# Altium footprint library Capacitor_THT.PcbLib: 378 footprints (part 21 of 24)
Each footprint in its own frame and in the unit in brackets; x right, y up, seen from the top. Pads: shape width x height; smd on the part's side, far side on the other; paste and mask are expansions set on the pad; w line width, h text height; cw(c..) or ccw(c..) is an arc to the next point about the centre after c.
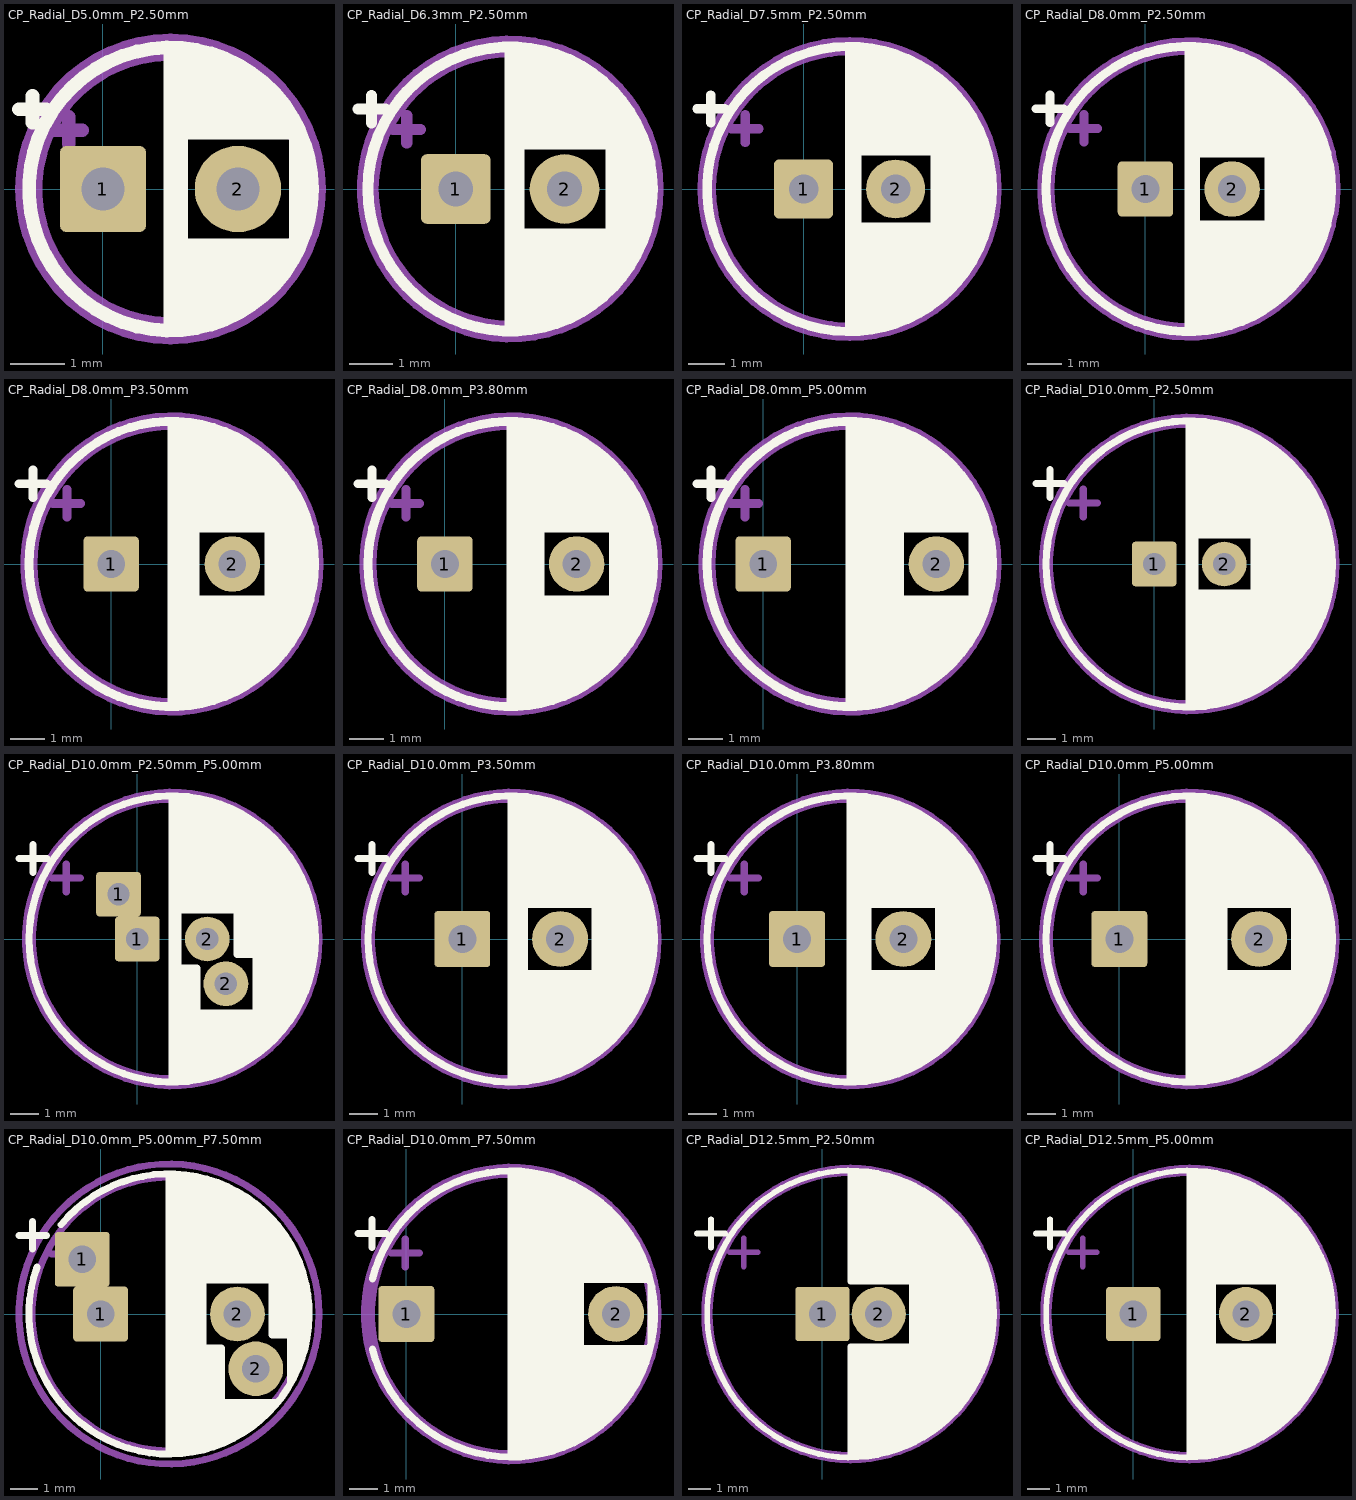
[diagram p20: the footprints below, top view; thin cyan lines are the x and y axes]

## CP_Radial_D5.0mm_P2.50mm [mm]
pads (2):
  rrect16% 1.6x1.6 hole 0.8: 1(0,0)
  round 1.6 hole 0.8: 2(2.5,0)
F.SilkS:
  circle w0.254: c1.25,0 r2.62
  lines w0.254: -1.555,1.475 -1.055,1.475 ; -1.305,1.225 -1.305,1.725 ; 1.25,-2.58 1.25,2.58 ; 1.29,-2.58 1.29,2.58 ; 1.33,-2.579 1.33,2.579 ; 1.37,-2.577 1.37,2.577 ; 1.41,-2.575 1.41,2.575 ; 1.45,-2.572 1.45,2.572 ; 1.49,-2.569 1.49,-1.04 ; 1.49,1.04 1.49,2.569 ; 1.53,-2.565 1.53,-1.04 ; 1.53,1.04 1.53,2.565 ; 1.57,-2.56 1.57,-1.04 ; 1.57,1.04 1.57,2.56 ; 1.61,-2.555 1.61,-1.04 ; 1.61,1.04 1.61,2.555 ; 1.65,-2.549 1.65,-1.04 ; 1.65,1.04 1.65,2.549 ; 1.69,-2.543 1.69,-1.04 ; 1.69,1.04 1.69,2.543 ; 1.73,-2.536 1.73,-1.04 ; 1.73,1.04 1.73,2.536 ; 1.77,-2.528 1.77,-1.04 ; 1.77,1.04 1.77,2.528 ; 1.81,-2.519 1.81,-1.04 ; 1.81,1.04 1.81,2.519 ; 1.85,-2.51 1.85,-1.04 ; 1.85,1.04 1.85,2.51 ; 1.89,-2.501 1.89,-1.04 ; 1.89,1.04 1.89,2.501 ; 1.93,-2.49 1.93,-1.04 ; 1.93,1.04 1.93,2.49 ; 1.97,-2.479 1.97,-1.04 ; 1.97,1.04 1.97,2.479 ; 2.01,-2.467 2.01,-1.04 ; 2.01,1.04 2.01,2.467 ; 2.05,-2.455 2.05,-1.04 ; 2.05,1.04 2.05,2.455 ; 2.09,-2.442 2.09,-1.04 ; 2.09,1.04 2.09,2.442 ; 2.13,-2.428 2.13,-1.04 ; 2.13,1.04 2.13,2.428 ; 2.17,-2.413 2.17,-1.04 ; 2.17,1.04 2.17,2.413 ; 2.21,-2.398 2.21,-1.04 ; 2.21,1.04 2.21,2.398 ; 2.25,-2.382 2.25,-1.04 ; 2.25,1.04 2.25,2.382 ; 2.29,-2.365 2.29,-1.04 ; 2.29,1.04 2.29,2.365 ; 2.33,-2.347 2.33,-1.04 ; 2.33,1.04 2.33,2.347 ; 2.37,-2.329 2.37,-1.04 ; 2.37,1.04 2.37,2.329 ; 2.41,-2.309 2.41,-1.04 ; 2.41,1.04 2.41,2.309 ; 2.45,-2.289 2.45,-1.04 ; 2.45,1.04 2.45,2.289 ; 2.49,-2.268 2.49,-1.04 ; 2.49,1.04 2.49,2.268 ; 2.53,-2.246 2.53,-1.04 ; 2.53,1.04 2.53,2.246 ; 2.57,-2.223 2.57,-1.04 ; 2.57,1.04 2.57,2.223 ; 2.61,-2.199 2.61,-1.04 ; 2.61,1.04 2.61,2.199 ; 2.65,-2.175 2.65,-1.04 ; 2.65,1.04 2.65,2.175 ; 2.69,-2.149 2.69,-1.04 ; 2.69,1.04 2.69,2.149 ; 2.73,-2.122 2.73,-1.04 ; 2.73,1.04 2.73,2.122 ; 2.77,-2.094 2.77,-1.04 ; 2.77,1.04 2.77,2.094 ; 2.81,-2.065 2.81,-1.04 ; 2.81,1.04 2.81,2.065 ; 2.85,-2.035 2.85,-1.04 ; 2.85,1.04 2.85,2.035 ; 2.89,-2.003 2.89,-1.04 ; 2.89,1.04 2.89,2.003 ; 2.93,-1.97 2.93,-1.04 ; 2.93,1.04 2.93,1.97 ; 2.97,-1.936 2.97,-1.04 ; 2.97,1.04 2.97,1.936 ; 3.01,-1.901 3.01,-1.04 ; 3.01,1.04 3.01,1.901 ; 3.05,-1.864 3.05,-1.04 ; 3.05,1.04 3.05,1.864 ; 3.09,-1.825 3.09,-1.04 ; 3.09,1.04 3.09,1.825 ; 3.13,-1.785 3.13,-1.04 ; 3.13,1.04 3.13,1.785 ; 3.17,-1.743 3.17,-1.04 ; 3.17,1.04 3.17,1.743 ; 3.21,-1.699 3.21,-1.04 ; 3.21,1.04 3.21,1.699 ; 3.25,-1.652 3.25,-1.04 ; 3.25,1.04 3.25,1.652 ; 3.29,-1.604 3.29,-1.04 ; 3.29,1.04 3.29,1.604 ; 3.33,-1.553 3.33,-1.04 ; 3.33,1.04 3.33,1.553 ; 3.37,-1.499 3.37,-1.04 ; 3.37,1.04 3.37,1.499 ; 3.41,-1.443 3.41,-1.04 ; 3.41,1.04 3.41,1.443 ; 3.45,-1.383 3.45,-1.04 ; 3.45,1.04 3.45,1.383 ; 3.49,-1.319 3.49,-1.04 ; 3.49,1.04 3.49,1.319 ; 3.53,-1.251 3.53,-1.04 ; 3.53,1.04 3.53,1.251 ; 3.57,-1.177 3.57,1.177 ; 3.61,-1.098 3.61,1.098 ; 3.65,-1.011 3.65,1.011 ; 3.69,-0.914 3.69,0.914 ; 3.73,-0.805 3.73,0.805 ; 3.77,-0.677 3.77,0.677 ; 3.81,-0.517 3.81,0.517 ; 3.85,-0.283 3.85,0.283
Top Assembly:
  circle w0.254: c1.25,0 r2.5
  lines w0.254: -0.884,1.088 -0.384,1.088 ; -0.634,0.837 -0.634,1.338
  text "'.Designator'" at -2.797,-0.84 h1
Top Courtyard:
  circle w0.254: c1.25,0 r2.75
Top Designator:
  text ".Designator" at -6.518,-0.508 h1.52

## CP_Radial_D6.3mm_P2.50mm [mm]
pads (2):
  rrect16% 1.6x1.6 hole 0.8: 1(0,0)
  round 1.6 hole 0.8: 2(2.5,0)
F.SilkS:
  circle w0.254: c1.25,0 r3.27
  lines w0.254: -2.25,1.839 -1.62,1.839 ; -1.935,1.524 -1.935,2.154 ; 1.25,-3.23 1.25,3.23 ; 1.29,-3.23 1.29,3.23 ; 1.33,-3.229 1.33,3.229 ; 1.37,-3.228 1.37,3.228 ; 1.41,-3.226 1.41,3.226 ; 1.45,-3.224 1.45,3.224 ; 1.49,-3.221 1.49,-1.04 ; 1.49,1.04 1.49,3.221 ; 1.53,-3.218 1.53,-1.04 ; 1.53,1.04 1.53,3.218 ; 1.57,-3.214 1.57,-1.04 ; 1.57,1.04 1.57,3.214 ; 1.61,-3.21 1.61,-1.04 ; 1.61,1.04 1.61,3.21 ; 1.65,-3.205 1.65,-1.04 ; 1.65,1.04 1.65,3.205 ; 1.69,-3.2 1.69,-1.04 ; 1.69,1.04 1.69,3.2 ; 1.73,-3.195 1.73,-1.04 ; 1.73,1.04 1.73,3.195 ; 1.77,-3.188 1.77,-1.04 ; 1.77,1.04 1.77,3.188 ; 1.81,-3.182 1.81,-1.04 ; 1.81,1.04 1.81,3.182 ; 1.85,-3.174 1.85,-1.04 ; 1.85,1.04 1.85,3.174 ; 1.89,-3.167 1.89,-1.04 ; 1.89,1.04 1.89,3.167 ; 1.93,-3.159 1.93,-1.04 ; 1.93,1.04 1.93,3.159 ; 1.97,-3.15 1.97,-1.04 ; 1.97,1.04 1.97,3.15 ; 2.01,-3.14 2.01,-1.04 ; 2.01,1.04 2.01,3.14 ; 2.05,-3.131 2.05,-1.04 ; 2.05,1.04 2.05,3.131 ; 2.09,-3.12 2.09,-1.04 ; 2.09,1.04 2.09,3.12 ; 2.13,-3.109 2.13,-1.04 ; 2.13,1.04 2.13,3.109 ; 2.17,-3.098 2.17,-1.04 ; 2.17,1.04 2.17,3.098 ; 2.21,-3.086 2.21,-1.04 ; 2.21,1.04 2.21,3.086 ; 2.25,-3.073 2.25,-1.04 ; 2.25,1.04 2.25,3.073 ; 2.29,-3.06 2.29,-1.04 ; 2.29,1.04 2.29,3.06 ; 2.33,-3.047 2.33,-1.04 ; 2.33,1.04 2.33,3.047 ; 2.37,-3.032 2.37,-1.04 ; 2.37,1.04 2.37,3.032 ; 2.41,-3.017 2.41,-1.04 ; 2.41,1.04 2.41,3.017 ; 2.45,-3.002 2.45,-1.04 ; 2.45,1.04 2.45,3.002 ; 2.49,-2.986 2.49,-1.04 ; 2.49,1.04 2.49,2.986 ; 2.53,-2.969 2.53,-1.04 ; 2.53,1.04 2.53,2.969 ; 2.57,-2.952 2.57,-1.04 ; 2.57,1.04 2.57,2.952 ; 2.61,-2.934 2.61,-1.04 ; 2.61,1.04 2.61,2.934 ; 2.65,-2.915 2.65,-1.04 ; 2.65,1.04 2.65,2.915 ; 2.69,-2.896 2.69,-1.04 ; 2.69,1.04 2.69,2.896 ; 2.73,-2.876 2.73,-1.04 ; 2.73,1.04 2.73,2.876 ; 2.77,-2.855 2.77,-1.04 ; 2.77,1.04 2.77,2.855 ; 2.81,-2.834 2.81,-1.04 ; 2.81,1.04 2.81,2.834 ; 2.85,-2.812 2.85,-1.04 ; 2.85,1.04 2.85,2.812 ; 2.89,-2.789 2.89,-1.04 ; 2.89,1.04 2.89,2.789 ; 2.93,-2.765 2.93,-1.04 ; 2.93,1.04 2.93,2.765 ; 2.97,-2.741 2.97,-1.04 ; 2.97,1.04 2.97,2.741 ; 3.01,-2.716 3.01,-1.04 ; 3.01,1.04 3.01,2.716 ; 3.05,-2.69 3.05,-1.04 ; 3.05,1.04 3.05,2.69 ; 3.09,-2.663 3.09,-1.04 ; 3.09,1.04 3.09,2.663 ; 3.13,-2.636 3.13,-1.04 ; 3.13,1.04 3.13,2.636 ; 3.17,-2.607 3.17,-1.04 ; 3.17,1.04 3.17,2.607 ; 3.21,-2.577 3.21,-1.04 ; 3.21,1.04 3.21,2.577 ; 3.25,-2.547 3.25,-1.04 ; 3.25,1.04 3.25,2.547 ; 3.29,-2.516 3.29,-1.04 ; 3.29,1.04 3.29,2.516 ; 3.33,-2.483 3.33,-1.04 ; 3.33,1.04 3.33,2.483 ; 3.37,-2.45 3.37,-1.04 ; 3.37,1.04 3.37,2.45 ; 3.41,-2.415 3.41,-1.04 ; 3.41,1.04 3.41,2.415 ; 3.45,-2.379 3.45,-1.04 ; 3.45,1.04 3.45,2.379 ; 3.49,-2.342 3.49,-1.04 ; 3.49,1.04 3.49,2.342 ; 3.53,-2.304 3.53,-1.04 ; 3.53,1.04 3.53,2.304 ; 3.57,-2.264 3.57,2.264 ; 3.61,-2.223 3.61,2.223 ; 3.65,-2.181 3.65,2.181 ; 3.69,-2.137 3.69,2.137 ; 3.73,-2.091 3.73,2.091 ; 3.77,-2.044 3.77,2.044 ; 3.81,-1.995 3.81,1.995 ; 3.85,-1.943 3.85,1.943 ; 3.89,-1.89 3.89,1.89 ; 3.93,-1.834 3.93,1.834 ; 3.97,-1.775 3.97,1.775 ; 4.01,-1.714 4.01,1.714 ; 4.05,-1.649 4.05,1.649 ; 4.09,-1.581 4.09,1.581 ; 4.13,-1.509 4.13,1.509 ; 4.17,-1.432 4.17,1.432 ; 4.21,-1.35 4.21,1.35 ; 4.25,-1.261 4.25,1.261 ; 4.29,-1.165 4.29,1.165 ; 4.33,-1.058 4.33,1.058 ; 4.37,-0.939 4.37,0.939 ; 4.41,-0.801 4.41,0.801 ; 4.45,-0.633 4.45,0.633 ; 4.49,-0.402 4.49,0.402
Top Assembly:
  circle w0.254: c1.25,0 r3.15
  lines w0.254: -1.444,1.373 -0.814,1.373 ; -1.129,1.058 -1.129,1.689
  text "'.Designator'" at -2.797,-0.84 h1
Top Courtyard:
  circle w0.254: c1.25,0 r3.4
Top Designator:
  text ".Designator" at -6.518,-0.508 h1.52

## CP_Radial_D7.5mm_P2.50mm [mm]
pads (2):
  rrect16% 1.6x1.6 hole 0.8: 1(0,0)
  round 1.6 hole 0.8: 2(2.5,0)
F.SilkS:
  drawing of 152 lines, arcs and shapes, not listed
Top Assembly:
  circle w0.254: c1.25,0 r3.75
  lines w0.254: -1.961,1.637 -1.211,1.637 ; -1.586,1.262 -1.586,2.013
  text "'.Designator'" at -2.797,-0.84 h1
Top Courtyard:
  circle w0.254: c1.25,0 r4
Top Designator:
  text ".Designator" at -6.439,-0.508 h1.52

## CP_Radial_D8.0mm_P2.50mm [mm]
pads (2):
  rrect16% 1.6x1.6 hole 0.8: 1(0,0)
  round 1.6 hole 0.8: 2(2.5,0)
F.SilkS:
  drawing of 158 lines, arcs and shapes, not listed
Top Assembly:
  circle w0.254: c1.25,0 r4
  lines w0.254: -2.177,1.747 -1.377,1.747 ; -1.777,1.348 -1.777,2.147
  text "'.Designator'" at -2.797,-0.84 h1
Top Courtyard:
  circle w0.254: c1.25,0 r4.25
Top Designator:
  text ".Designator" at -6.447,-0.508 h1.52

## CP_Radial_D8.0mm_P3.50mm [mm]
pads (2):
  rrect16% 1.6x1.6 hole 0.8: 1(0,0)
  round 1.6 hole 0.8: 2(3.5,0)
F.SilkS:
  drawing of 158 lines, arcs and shapes, not listed
Top Assembly:
  circle w0.254: c1.75,0 r4
  lines w0.254: -1.677,1.747 -0.877,1.747 ; -1.277,1.348 -1.277,2.147
  text "'.Designator'" at -2.297,-0.84 h1
Top Courtyard:
  circle w0.254: c1.75,0 r4.25
Top Designator:
  text ".Designator" at -5.947,-0.508 h1.52

## CP_Radial_D8.0mm_P3.80mm [mm]
pads (2):
  rrect16% 1.6x1.6 hole 0.8: 1(0,0)
  round 1.6 hole 0.8: 2(3.8,0)
F.SilkS:
  drawing of 158 lines, arcs and shapes, not listed
Top Assembly:
  circle w0.254: c1.9,0 r4
  lines w0.254: -1.527,1.747 -0.727,1.747 ; -1.127,1.348 -1.127,2.147
  text "'.Designator'" at -2.147,-0.84 h1
Top Courtyard:
  circle w0.254: c1.9,0 r4.25
Top Designator:
  text ".Designator" at -5.797,-0.508 h1.52

## CP_Radial_D8.0mm_P5.00mm [mm]
pads (2):
  rrect16% 1.6x1.6 hole 0.8: 1(0,0)
  round 1.6 hole 0.8: 2(5,0)
F.SilkS:
  drawing of 158 lines, arcs and shapes, not listed
Top Assembly:
  circle w0.254: c2.5,0 r4
  lines w0.254: -0.927,1.747 -0.127,1.747 ; -0.527,1.348 -0.527,2.147
  text "'.Designator'" at -1.547,-0.84 h1
Top Courtyard:
  circle w0.254: c2.5,0 r4.25
Top Designator:
  text ".Designator" at -5.197,-0.508 h1.52

## CP_Radial_D10.0mm_P2.50mm [mm]
pads (2):
  rrect16% 1.6x1.6 hole 0.8: 1(0,0)
  round 1.6 hole 0.8: 2(2.5,0)
F.SilkS:
  drawing of 183 lines, arcs and shapes, not listed
Top Assembly:
  circle w0.254: c1.25,0 r5
  lines w0.254: -3.039,2.187 -2.039,2.187 ; -2.539,1.687 -2.539,2.688
  text "'.Designator'" at -2.797,-0.84 h1
Top Courtyard:
  circle w0.254: c1.25,0 r5.25
Top Designator:
  text ".Designator" at -6.482,-0.508 h1.52

## CP_Radial_D10.0mm_P2.50mm_P5.00mm [mm]
pads (4):
  rrect16% 1.6x1.6 hole 0.8: 1(-0.671,1.6) 1(0,0)
  round 1.6 hole 0.8: 2(2.5,0) 2(3.171,-1.6)
F.SilkS:
  drawing of 200 lines, arcs and shapes, not listed
Top Assembly:
  circle w0.254: c1.25,0 r5
  lines w0.254: -3.039,2.187 -2.039,2.187 ; -2.539,1.687 -2.539,2.688
  text "'.Designator'" at -2.797,-0.84 h1
Top Courtyard:
  circle w0.254: c1.25,0 r5.25
Top Designator:
  text ".Designator" at -6.482,-0.508 h1.52

## CP_Radial_D10.0mm_P3.50mm [mm]
pads (2):
  rrect12% 2x2 hole 1: 1(0,0)
  round 2 hole 1: 2(3.5,0)
F.SilkS:
  drawing of 193 lines, arcs and shapes, not listed
Top Assembly:
  circle w0.254: c1.75,0 r5
  lines w0.254: -2.539,2.187 -1.539,2.187 ; -2.039,1.687 -2.039,2.688
  text "'.Designator'" at -2.297,-0.84 h1
Top Courtyard:
  circle w0.254: c1.75,0 r5.25
Top Designator:
  text ".Designator" at -5.982,-0.508 h1.52

## CP_Radial_D10.0mm_P3.80mm [mm]
pads (2):
  rrect12% 2x2 hole 1: 1(0,0)
  round 2 hole 1: 2(3.8,0)
F.SilkS:
  drawing of 193 lines, arcs and shapes, not listed
Top Assembly:
  circle w0.254: c1.9,0 r5
  lines w0.254: -2.389,2.187 -1.389,2.187 ; -1.889,1.687 -1.889,2.688
  text "'.Designator'" at -2.147,-0.84 h1
Top Courtyard:
  circle w0.254: c1.9,0 r5.25
Top Designator:
  text ".Designator" at -5.832,-0.508 h1.52

## CP_Radial_D10.0mm_P5.00mm [mm]
pads (2):
  rrect12% 2x2 hole 1: 1(0,0)
  round 2 hole 1: 2(5,0)
F.SilkS:
  drawing of 193 lines, arcs and shapes, not listed
Top Assembly:
  circle w0.254: c2.5,0 r5
  lines w0.254: -1.789,2.187 -0.789,2.187 ; -1.289,1.687 -1.289,2.688
  text "'.Designator'" at -1.547,-0.84 h1
Top Courtyard:
  circle w0.254: c2.5,0 r5.25
Top Designator:
  text ".Designator" at -5.232,-0.508 h1.52

## CP_Radial_D10.0mm_P5.00mm_P7.50mm [mm]
pads (4):
  rrect12% 2x2 hole 1: 1(-0.672,2) 1(0,0)
  round 2 hole 1: 2(5,0) 2(5.672,-2)
F.SilkS:
  drawing of 197 lines, arcs and shapes, not listed
Top Assembly:
  circle w0.254: c2.5,0 r5
  lines w0.254: -1.789,2.187 -0.789,2.187 ; -1.289,1.687 -1.289,2.688
  text "'.Designator'" at -1.547,-0.84 h1
Top Courtyard:
  circle w0.254: c2.5,0 r5.48
Top Designator:
  text ".Designator" at -5.118,-0.508 h1.52

## CP_Radial_D10.0mm_P7.50mm [mm]
pads (2):
  rrect12% 2x2 hole 1: 1(0,0)
  round 2 hole 1: 2(7.5,0)
F.SilkS:
  drawing of 191 lines, arcs and shapes, not listed
Top Assembly:
  circle w0.254: c3.75,0 r5
  lines w0.254: -0.539,2.187 0.461,2.187 ; -0.039,1.687 -0.039,2.688
  text "'.Designator'" at -0.297,-0.84 h1
Top Courtyard:
  circle w0.254: c3.75,0 r5.25
Top Designator:
  text ".Designator" at -3.982,-0.508 h1.52

## CP_Radial_D12.5mm_P2.50mm [mm]
pads (2):
  rrect10% 2.4x2.4 hole 1.2: 1(0,0)
  round 2.4 hole 1.2: 2(2.5,0)
F.SilkS:
  drawing of 231 lines, arcs and shapes, not listed
Top Assembly:
  circle w0.254: c1.25,0 r6.25
  lines w0.254: -4.116,2.738 -2.866,2.738 ; -3.491,2.113 -3.491,3.363
  text "'.Designator'" at -2.797,-0.84 h1
Top Courtyard:
  circle w0.254: c1.25,0 r6.5
Top Designator:
  text ".Designator" at -6.526,-0.508 h1.52

## CP_Radial_D12.5mm_P5.00mm [mm]
pads (2):
  rrect10% 2.4x2.4 hole 1.2: 1(0,0)
  round 2.4 hole 1.2: 2(5,0)
F.SilkS:
  drawing of 235 lines, arcs and shapes, not listed
Top Assembly:
  circle w0.254: c2.5,0 r6.25
  lines w0.254: -2.866,2.738 -1.616,2.738 ; -2.241,2.113 -2.241,3.363
  text "'.Designator'" at -1.547,-0.84 h1
Top Courtyard:
  circle w0.254: c2.5,0 r6.5
Top Designator:
  text ".Designator" at -5.276,-0.508 h1.52